# Altium schematic symbol library Dashboard.SchLib: 15 symbols
Pins are listed as number, name and electrical type; pins without a type are passive.

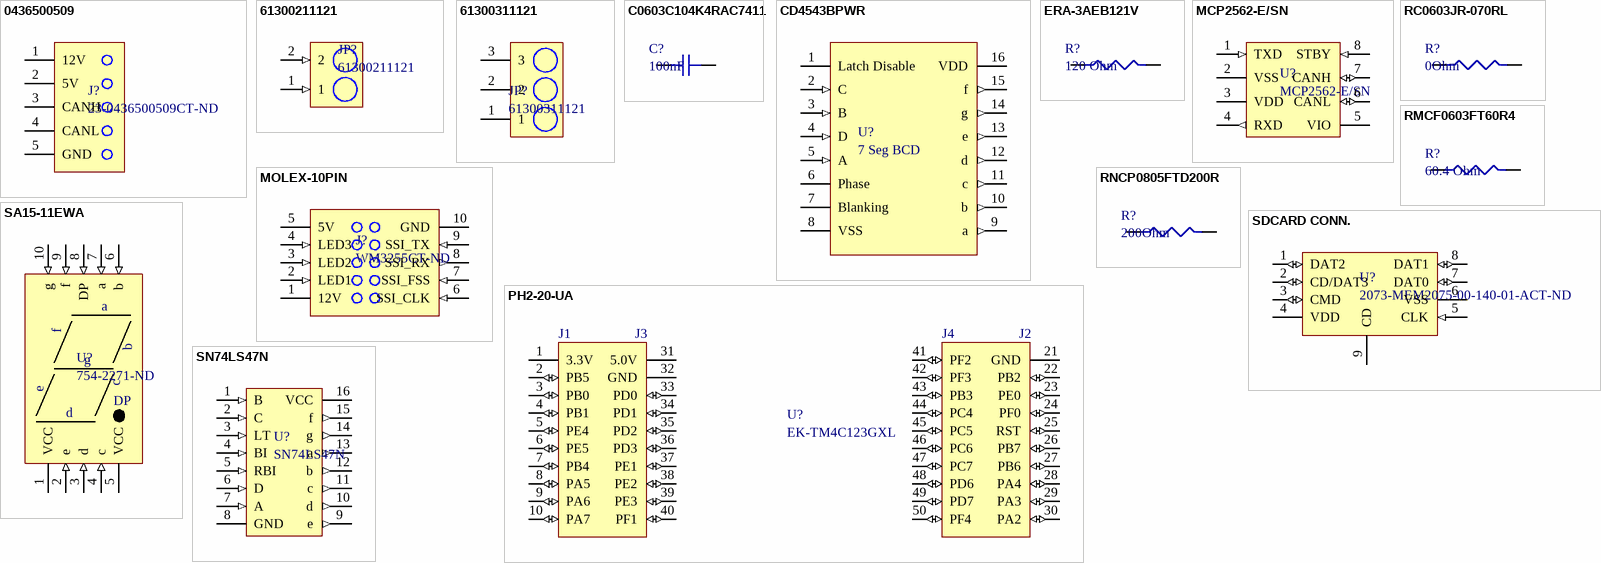
[diagram p0: symbols 0436500509 to SN74LS47N]

## 0436500509
designator J?, comment 23-0436500509CT-ND
GLOVE, POLYAMIDE, L/FREE, PU, SIZE 6 - More Details; Manufacturer: Molex; Max Voltage Rating (AC): 250V; Number of Contacts: 5; Current Rating: 5A; Voltage Rating: 600V; Gender: Male; Connector Type: Male Pin; Pitch: 3mm; Glow Wire Compliant: Compliant; Supplier 1: Digi-Key; Manufacturer Part Number: 0436500509; Stock 1: 8420; Pricing 1: 1=2.58000, 10=2.34500, 100=2.00970 (USD); RoHS: Yes; Mount: Surface Mount; Contact Plating: Tin; Contact Material: Brass; Color: Black; Housing Color: Black; Housing Material: Polymer; Min Operating Temperature: -40°C; Max Operating Temperature: 105°C; Termination: Solder; Orientation: Right Angle; Number of Rows: 1; Packaging: Tape and Reel; Package Quantity: 10; Fastening Type: Ramp; Contact Gender: Male; Number of Positions: 5; Voltage Rating (DC): 250V; Number of Circuits: 5; Halogen Free: Low Halogen; ComponentLink1URL: https://datasheet.ciiva.com/712/436501209-sd-712211.pdf?src-supplier=Digi-Key; ComponentLink1Description: https://datasheet.ciiva.com/712/436501209-sd-712211.pdf?src-supplier=Digi-Key; ComponentLink2URL: https://datasheet.ciiva.com/16089/0436500509-pcb-headers-16089055.pdf?src-supplier=Onlinecomponents.com; ComponentLink2Description: https://datasheet.ciiva.com/16089/0436500509-pcb-headers-16089055.pdf?src-supplier=Onlinecomponents.com; Supplier Part Number 1: 23-0436500509CT-ND
footprint MOLEX-5PIN (Connector Header Surface Mount, Right Angle 5 position 0.118" (3.00mm))
pins: 1 12V (power), 2 5V (power), 3 CANH, 4 CANL, 5 GND (power)

## 61300211121
designator JP?
Headers & Wire Housings WR-PHD 2.54mm 2Pin THT Header; Manufacturer: Wurth Electronics; Current Rating: 3A; Voltage Rating: 250V; Number of Positions: 2; Gender: Male; Connector Type: Male Pin; Pitch: 0.1inch; Supplier 1: Digi-Key; Manufacturer Part Number: 61300211121; Stock 1: 191551; Pricing 1: 1=0.13000, 10=0.10600, 25=0.08800, 50=0.07400, 100=0.06700, 1000=0.06100 (USD); RoHS: Yes; Mount: Through Hole; Contact Plating: Gold; Housing Material: PBT; Contact Material: Copper Alloy,Copper; Color: Black; Min Operating Temperature: -40°C; Max Operating Temperature: 125°C; Number of Rows: 1; Contact Gender: Male; Packaging: Bulk; Termination: Through Hole; Number of Contacts: 2; Contact Mating Length: 0.236inch; REACH SVHC: Unknown; Lead Free: Lead Free; ComponentLink1URL: https://datasheet.ciiva.com/13619/6130xx11121-48870-13619345.pdf?src-supplier=Mouser; ComponentLink1Description: https://datasheet.ciiva.com/13619/6130xx11121-48870-13619345.pdf?src-supplier=Mouser; Supplier Part Number 1: 732-5315-ND
footprint 61300211121 (Connector Header Through Hole 2 position 0.100" (2.54mm))
pins: 1 (in) "Standby Mode Input", 2 (in) "Standby Mode Input"

## 61300311121
designator JP?
WURTH ELEKTRONIK - 61300311121 - HEADER, 2.54MM, PIN, THT, VERTICAL, 3WAY; Manufacturer: Wurth Electronics; Number of Positions: 3; Gender: Male; Connector Type: Male Pin; Pitch: 0.1inch; Supplier 1: Digi-Key; Manufacturer Part Number: 61300311121; Stock 1: 56311; Pricing 1: 1=0.13000, 10=0.10600, 25=0.08800, 50=0.07400, 100=0.06700, 1000=0.06100 (USD); RoHS: Yes; Mount: Through Hole; Contact Plating: Gold; Contact Material: Copper; Color: Black; Number of Rows: 1; Packaging: Bulk; Termination: Solder; Number of Contacts: 3; Contact Mating Length: 0.236inch; REACH SVHC: Unknown; Lead Free: Lead Free; ComponentLink1URL: http://www.farnell.com/cad/1737268.pdf?src-supplier=Element14; ComponentLink1Description: http://www.farnell.com/cad/1737268.pdf?src-supplier=Element14; ComponentLink2URL: https://katalog.we-online.de/em/datasheet/6130xx11121.pdf?src-supplier=Digi-Key; ComponentLink2Description: https://katalog.we-online.de/em/datasheet/6130xx11121.pdf?src-supplier=Digi-Key; Supplier Part Number 1: 732-5316-ND
footprint 61300311121 (Connector Header Through Hole 3 position 0.100" (2.54mm))
pins: 1 "Standby Mode Input", 2 "Standby Mode Input", 3 "Standby Mode Input"

## C0603C104K4RAC7411
designator C?, comment 100nF
Cap Ceramic 0.1uF 16V X7R 10% SMD 0603 125C Paper T/R; Manufacturer: KEMET; Manufacturer Part Number: C0603C104K4RAC7411; Dissipation Factor: 3.5%; Supplier 1: Digi-Key; Stock 1: 26049; Pricing 1: 1=0.14000, 10=0.09800, 100=0.04620, 500=0.03240, 1000=0.02683, 2500=0.02497, 5000=0.02285 (USD); RoHS: Yes; Mount: Surface Mount; Case/Package: 0603; Case Code (Imperial): 0603; Case Code (Metric): 1608; Dielectric Material: Ceramic; Min Operating Temperature: -55°C; Max Operating Temperature: 125°C; Tolerance: 10%; Packaging: Tape and Reel; Capacitance: 100nF; Package Quantity: 10000; Voltage Rating: 16V; Voltage Rating (DC): 16V; Dielectric: X7R; Termination: SMD/SMT; Length: 1.6mm; Height: 0.8mm; Width: 0.8mm; Lead Pitch: 0.7mm; Depth: 0.8mm; Radiation Hardening: No; ComponentLink1URL: https://datasheet.ciiva.com/5411/kem-c1002-x7r-smd-357932-5411657.pdf?src-supplier=Mouser; ComponentLink1Description: https://datasheet.ciiva.com/5411/kem-c1002-x7r-smd-357932-5411657.pdf?src-supplier=Mouser; Supplier Part Number 1: 399-17393-1-ND
footprint CAPC1608X10N (Chip Capacitor, 2-Leads, Body 1.60x0.80mm, IPC Medium Density)
pins: 1, 2

## CD4543BPWR
designator U?, comment 7 Seg BCD
IC BCD7SEG LCH/DECD/DRVR 16TSSOP; Manufacturer: Texas Instruments; Manufacturer Part Number: CD4543BPWR; Number of Inputs: 4; Number of Outputs: 7; Propagation Delay: 400ns; Max Supply Voltage: 18V; Min Supply Voltage: 3V; Number of Elements: 1; Logic Function: Demultiplexer,Decoder; Polarity: Non-Inverting; Turn-On Delay Time: 1200ns; High Level Output Current: -3.33mA; Low Level Output Current: 4.2mA; Quiescent Current: 100uA; Display Type: LCD; Operating Supply Current: 40nA; Bandwidth: 8MHz; Supplier 1: Digi-Key; Stock 1: 1809; Pricing 1: 1=0.42000, 10=0.35900, 100=0.26820, 500=0.21074, 1000=0.16284 (USD); RoHS: Yes; Case/Package: TSSOP; Number of Pins: 16; Weight: 0.002183oz; Contact Plating: Gold; Min Operating Temperature: -55°C; Max Operating Temperature: 125°C; Packaging: Tape and Reel; Package Quantity: 1; Min Input Voltage: 3V; Number of Input Lines: 4; Number of Output Lines: 7; Number of Bits: 7; Number of Channels: 4; Lead Free: Lead Free; ComponentLink1URL: https://datasheet.ciiva.com/14294/cd4543b-14294665.pdf?src-supplier=Avnet; ComponentLink1Description: https://datasheet.ciiva.com/14294/cd4543b-14294665.pdf?src-supplier=Avnet; ComponentLink2URL: https://datasheet.ciiva.com/1940/cd4543b-1940490.pdf?src-supplier=Digi-Key; ComponentLink2Description: https://datasheet.ciiva.com/1940/cd4543b-1940490.pdf?src-supplier=Digi-Key; ComponentLink3URL: https://datasheet.ciiva.com/1940/cd4543b-1940491.pdf?src-supplier=Digi-Key; ComponentLink3Description: https://datasheet.ciiva.com/1940/cd4543b-1940491.pdf?src-supplier=Digi-Key; ComponentLink4URL: https://datasheet.ciiva.com/1940/cd4543b-1940492.pdf?src-supplier=Digi-Key; ComponentLink4Description: https://datasheet.ciiva.com/1940/cd4543b-1940492.pdf?src-supplier=Digi-Key; Supplier Part Number 1: 296-17106-1-ND
footprint TSOP65P640X120-16N (TSOP, 16-Leads, Body 5.00x4.40mm, Pitch 0.65mm, IPC Medium Density)
pins: 1 Latch Disable (power), 2 C (in), 3 B (in), 4 D (in), 5 A (in), 6 Phase (power), 7 Blanking (power), 8 VSS (power), 9 a (out), 10 b (out), 11 c (out), 12 d (out), 13 e (out), 14 g (out), 15 f (out), 16 VDD (power)

## ERA-3AEB121V
designator R?, comment 120 Ohm
Metal film resistor 120 Ω SMD 0603 0.1 W; Manufacturer: Panasonic; Manufacturer Part Number: ERA-3AEB121V; Resistance: 120R; Power Rating: 100mW; Tolerance: 0.1%; Voltage Rating: 75V; Temperature Coefficient: 25ppm/°C; Supplier 1: Digi-Key; Stock 1: 121177; Pricing 1: 1=0.35000, 10=0.30000, 100=0.11730, 1000=0.04908, 2500=0.04499 (USD); RoHS: Yes; Mount: Surface Mount; Case/Package: 0603; Number of Pins: 2; Case Code (Metric): 1608; Case Code (Imperial): 0603; Contact Plating: Tin; Min Operating Temperature: -55°C; Max Operating Temperature: 155°C; Packaging: Tape and Reel; Package Quantity: 1; Composition: Thin Film; Number of Terminations: 2; Termination: SMD/SMT; Military Standard: Not; Max Power Dissipation: 100mW; Voltage Rating (DC): 75V; Features: Automotive AEC-Q200; Length: 1.6mm; Height: 0.45mm; Width: 0.8mm; Depth: 0.8mm; Radiation Hardening: No; REACH SVHC: No SVHC; Lead Free: Lead Free; ComponentLink1URL: https://datasheet.ciiva.com/11808/0900766b80fe20f7-11808026.pdf?src-supplier=RSComponents; ComponentLink1Description: https://datasheet.ciiva.com/11808/0900766b80fe20f7-11808026.pdf?src-supplier=RSComponents; ComponentLink2URL: https://datasheet.ciiva.com/22737/1776116-22737254.pdf?src-supplier=Element14; ComponentLink2Description: https://datasheet.ciiva.com/22737/1776116-22737254.pdf?src-supplier=Element14; ComponentLink3URL: https://datasheet.ciiva.com/30214/54aoa0000ce26-30214359.pdf?src-supplier=Onlinecomponents.com; ComponentLink3Description: https://datasheet.ciiva.com/30214/54aoa0000ce26-30214359.pdf?src-supplier=Onlinecomponents.com; ComponentLink4URL: https://datasheet.ciiva.com/48425/era-eng-tds-48425415.pdf?src-supplier=Distrelec; ComponentLink4Description: https://datasheet.ciiva.com/48425/era-eng-tds-48425415.pdf?src-supplier=Distrelec; ComponentLink5URL: https://datasheet.ciiva.com/5999/485442-5999048.pdf?src-supplier=Farnell; ComponentLink5Description: https://datasheet.ciiva.com/5999/485442-5999048.pdf?src-supplier=Farnell; ComponentLink6URL: https://datasheet.ciiva.com/43455/485442-43455209.pdf?src-supplier=Farnell; ComponentLink6Description: https://datasheet.ciiva.com/43455/485442-43455209.pdf?src-supplier=Farnell; ComponentLink7URL: https://datasheet.ciiva.com/43457/485442-43457753.pdf?src-supplier=Farnell; ComponentLink7Description: https://datasheet.ciiva.com/43457/485442-43457753.pdf?src-supplier=Farnell; ComponentLink8URL: https://datasheet.ciiva.com/48534/era-eng-tds-48534505.pdf?src-supplier=Distrelec; ComponentLink8Description: https://datasheet.ciiva.com/48534/era-eng-tds-48534505.pdf?src-supplier=Distrelec; ComponentLink9URL: https://datasheet.ciiva.com/5999/485442-5999050.pdf?src-supplier=Farnell; ComponentLink9Description: https://datasheet.ciiva.com/5999/485442-5999050.pdf?src-supplier=Farnell; ComponentLink10URL: https://datasheet.ciiva.com/9117/aoa0000ce26-9117338.pdf?src-supplier=Avnet; ComponentLink10Description: https://datasheet.ciiva.com/9117/aoa0000ce26-9117338.pdf?src-supplier=Avnet; ComponentLink11URL: https://datasheet.ciiva.com/9186/aoa0000ce26-9186155.pdf?src-supplier=Avnet; ComponentLink11Description: https://datasheet.ciiva.com/9186/aoa0000ce26-9186155.pdf?src-supplier=Avnet; Supplier Part Number 1: P120DBCT-ND
footprint RESC1608X06N (Chip Resistor, 2-Leads, Body 1.60x0.80mm, IPC Medium Density)
pins: 1, 2

## MCP2562-E/SN
designator U?
Interface IC CAN SO-8; Manufacturer: Microchip; Number of Transmit Buffers: 1; Min Supply Voltage: 4.5V; Max Supply Voltage: 5.5V; Data Rate: 1Mbps; Nominal Supply Current: 70mA; Propagation Delay: 125ns; Interface: CAN,LIN; Logic Function: Transceiver; Supplier 1: Digi-Key; Manufacturer Part Number: MCP2562-E/SN; Stock 1: 3084; Pricing 1: 1=0.90000, 25=0.75000, 100=0.68000 (USD); RoHS: Yes; Mount: Surface Mount; Case/Package: SOIC; Number of Pins: 8; Min Operating Temperature: -40°C; Max Operating Temperature: 125°C; Number of Receive Buffers: 1; Packaging: Rail/Tube; Number of Receivers: 1; Package Quantity: 100; Turn-On Delay Time: 125ns; Number of Transceivers: 1; Max Supply Current: 70mA; Number of Drivers: 1; Length: 4.9mm; Height: 1.5mm; Width: 3.9mm; Radiation Hardening: No; REACH SVHC: No SVHC; Lead Free: Lead Free; ComponentLink1URL: https://datasheet.ciiva.com/26922/getdatasheetpartid-776214-26922473.pdf?src-supplier=Verical; ComponentLink1Description: https://datasheet.ciiva.com/26922/getdatasheetpartid-776214-26922473.pdf?src-supplier=Verical; ComponentLink2URL: https://datasheet.ciiva.com/24192/filehandler-aspxddocname-en561044-24192158.pdf?src-supplier=Future+Electronics; ComponentLink2Description: https://datasheet.ciiva.com/24192/filehandler-aspxddocname-en561044-24192158.pdf?src-supplier=Future+Electronics; ComponentLink3URL: https://datasheet.ciiva.com/39123/21125167b-39123503.pdf?src-supplier=Onlinecomponents.com; ComponentLink3Description: https://datasheet.ciiva.com/39123/21125167b-39123503.pdf?src-supplier=Onlinecomponents.com; ComponentLink4URL: https://datasheet.ciiva.com/22747/1755821-22747911.pdf?src-supplier=Element14; ComponentLink4Description: https://datasheet.ciiva.com/22747/1755821-22747911.pdf?src-supplier=Element14; ComponentLink5URL: https://datasheet.ciiva.com/18624/25167b-18624808.pdf?src-supplier=Digi-Key; ComponentLink5Description: https://datasheet.ciiva.com/18624/25167b-18624808.pdf?src-supplier=Digi-Key; ComponentLink6URL: https://datasheet.ciiva.com/29898/25167b-29898006.pdf?src-supplier=Avnet; ComponentLink6Description: https://datasheet.ciiva.com/29898/25167b-29898006.pdf?src-supplier=Avnet; ComponentLink7URL: https://datasheet.ciiva.com/48512/mcp2562-eng-tds-48512071.pdf?src-supplier=Distrelec; ComponentLink7Description: https://datasheet.ciiva.com/48512/mcp2562-eng-tds-48512071.pdf?src-supplier=Distrelec; Supplier Part Number 1: MCP2562-E/SN-ND
footprint SOIC127P600X175-8N (SOIC, 8-Leads, Body 4.90x3.90mm, Pitch 1.27mm, IPC Medium Density)
pins: 1 TXD (in) "Transmit Data Input", 2 VSS (power) "Ground", 3 VDD (power) "Supply Voltage", 4 RXD (out) "Receive Data Output", 5 VIO "Digital IO Supply Pin", 6 CANL (io) "CAN Low-Level Voltage I/O", 7 CANH (io) "CAN High-Level Voltage I/O", 8 STBY (in) "Standby Mode Input"

## MOLEX-10PIN
designator J?, comment WM3255CT-ND
HEADER R/A 10POS DUAL TIN SMD; Manufacturer: Molex; Manufacturer Part Number: 0430451006; Contact Resistance: 10mR; Number of Positions: 10; Connector Type: Male Pin; Pitch: 3mm; Row Spacing: 0.118inch; Supplier 1: Digi-Key; Stock 1: 2460; Pricing 1: 1=3.72000, 10=3.57200, 100=2.97680 (USD); RoHS: Yes; Mount: Surface Mount; Contact Plating: Tin; Contact Material: Brass; Color: Black; Housing Material: Polymer; Housing Color: Black; Min Operating Temperature: -40°C; Max Operating Temperature: 105°C; Number of Rows: 2; Packaging: Tape and Reel; Termination: Solder; Number of Contacts: 10; Orientation: Right Angle; Fastening Type: Latch; Length: 19.15mm; Depth: 15.4mm; ComponentLink1URL: https://datasheet.ciiva.com/737/430450407-sd-737953.pdf?src-supplier=Digi-Key; ComponentLink1Description: https://datasheet.ciiva.com/737/430450407-sd-737953.pdf?src-supplier=Digi-Key; Supplier Part Number 1: WM3255CT-ND
footprint MOLEX-10PIN (Connector Header Surface Mount, Right Angle 10 position 0.118" (3.00mm))
pins: 1 12V (power), 2 LED1 (in), 3 LED2 (in), 4 LED3 (in), 5 5V (power), 6 SSI_CLK (in), 7 SSI_FSS (in), 8 SSI_RX (out), 9 SSI_TX (in), 10 GND (power)

## PH2-20-UA
designator U?, comment EK-TM4C123GXL
PH Series 20 Position Through-Hole Dual Row Straight .100 Header; Manufacturer: Adam Equipment; Manufacturer Part Number: PH2-20-UA; Number of Positions: 20; Pitch: 2.54mm; Supplier 1: Digi-Key; Stock 1: 6280; Pricing 1: 1=0.26000, 10=0.24700, 100=0.17300, 500=0.14826, 1000=0.12355, 5000=0.10590, 10000=0.09884 (USD); RoHS: Yes; Mount: Through Hole; Contact Plating: Gold; Termination: Solder; Packaging: Bag; Lead Free: Lead Free; ComponentLink1URL: https://datasheet.ciiva.com/16479/page-312-315-16479356.pdf?src-supplier=Future+Electronics; ComponentLink1Description: https://datasheet.ciiva.com/16479/page-312-315-16479356.pdf?src-supplier=Future+Electronics; Supplier Part Number 1: 2057-PH2-20-UA-ND
footprint TIVA Headers
pins: 1 3.3V (power), 2 PB5 (io), 3 PB0 (io), 4 PB1 (io), 5 PE4 (io), 6 PE5 (io), 7 PB4 (io), 8 PA5 (io), 9 PA6 (io), 10 PA7 (io), 21 GND (power), 22 PB2 (io), 23 PE0 (io), 24 PF0 (io), 25 RST (io), 26 PB7 (io), 27 PB6 (io), 28 PA4 (io), 29 PA3 (io), 30 PA2 (io), 31 5.0V (power), 32 GND (power), 33 PD0 (io), 34 PD1 (io), 35 PD2 (io), 36 PD3 (io), 37 PE1 (io), 38 PE2 (io), 39 PE3 (io), 40 PF1 (io), 41 PF2 (io), 42 PF3 (io), 43 PB3 (io), 44 PC4 (io), 45 PC5 (io), 46 PC6 (io), 47 PC7 (io), 48 PD6 (io), 49 PD7 (io), 50 PF4 (io)
text: J1; J3; J4; J2

## RC0603JR-070RL
designator R?, comment 0Ohm
RES SMD 0 OHM JUMPER 1/10W 0603; Manufacturer: Yageo; Manufacturer Part Number: RC0603JR-070RL; Resistance: 0mR; Tolerance: 1%; Voltage Rating: 50V; Power Rating: 100mW; Temperature Coefficient: 200ppm/°C; Supplier 1: Digi-Key; Stock 1: 36135548; Pricing 1: 1=0.10000, 10=0.01900, 25=0.01360, 50=0.01040, 100=0.00770, 250=0.00588, 500=0.00472, 1000=0.00347 (USD); RoHS: Yes; Case/Package: 0603; Number of Pins: 2; Case Code (Imperial): 0603; Case Code (Metric): 1608; Contact Plating: Tin,Matte; Min Operating Temperature: -55°C; Max Operating Temperature: 155°C; Package Quantity: 5000; Packaging: Tape and Reel; Voltage Rating (DC): 50V; Termination: SMD/SMT; Composition: Thick Film; Military Standard: Not; Length: 1.6mm; Height: 0.45mm; Width: 0.8mm; Depth: 0.8mm; Radiation Hardening: No; REACH SVHC: No SVHC; Lead Free: Lead Free; ComponentLink1URL: https://datasheet.ciiva.com/11808/pyu-r-int-6-11808700.pdf?src-supplier=RSComponents; ComponentLink1Description: https://datasheet.ciiva.com/11808/pyu-r-int-6-11808700.pdf?src-supplier=RSComponents; ComponentLink2URL: https://datasheet.ciiva.com/7746/1738695-7746421.pdf?src-supplier=Element14; ComponentLink2Description: https://datasheet.ciiva.com/7746/1738695-7746421.pdf?src-supplier=Element14; ComponentLink3URL: https://datasheet.ciiva.com/8883/pyu-rc0603-51-rohs-l-4-8883045.pdf?src-supplier=Avnet; ComponentLink3Description: https://datasheet.ciiva.com/8883/pyu-rc0603-51-rohs-l-4-8883045.pdf?src-supplier=Avnet; ComponentLink4URL: https://datasheet.ciiva.com/15189/getdatasheetpartid-329462-15189845.pdf?src-supplier=Verical; ComponentLink4Description: https://datasheet.ciiva.com/15189/getdatasheetpartid-329462-15189845.pdf?src-supplier=Verical; ComponentLink5URL: https://datasheet.ciiva.com/7746/1738695-7746422.pdf?src-supplier=Element14; ComponentLink5Description: https://datasheet.ciiva.com/7746/1738695-7746422.pdf?src-supplier=Element14; ComponentLink6URL: https://datasheet.ciiva.com/12555/rc0603-272842-12555254.pdf?src-supplier=Mouser; ComponentLink6Description: https://datasheet.ciiva.com/12555/rc0603-272842-12555254.pdf?src-supplier=Mouser; ComponentLink7URL: https://datasheet.ciiva.com/22747/443971-22747530.pdf?src-supplier=Element14; ComponentLink7Description: https://datasheet.ciiva.com/22747/443971-22747530.pdf?src-supplier=Element14; Supplier Part Number 1: 311-0.0GRCT-ND
footprint RES-0603 (Chip Resistor, 2-Leads, Body 1.60x0.80mm, IPC Medium Density)
pins: 1, 2

## RMCF0603FT60R4
designator R?, comment 60.4 Ohm
RES 60.4 OHM 1% 1/10W 0603; Manufacturer: Stackpole Electronics; Manufacturer Part Number: RMCF0603FT60R4; Resistance: 60.4R; Max Power Dissipation: 100mW; Temperature Coefficient: 100ppm/°C; Supplier 1: Digi-Key; Stock 1: 27338; Pricing 1: 1=0.10000, 10=0.01600, 100=0.00650, 1000=0.00292, 2500=0.00253 (USD); RoHS: Yes; Mount: Surface Mount; Case/Package: 0603; Case Code (Metric): 1608; Case Code (Imperial): 0603; Contact Plating: Tin,Matte; Min Operating Temperature: -55°C; Max Operating Temperature: 155°C; Packaging: Tape and Reel; Tolerance: 1%; Composition: Thick Film; Number of Terminations: 2; Features: Automotive AEC-Q200; Length: 0.061inch; Height: 0.022inch; Width: 0.031inch; Radiation Hardening: No; Lead Free: Lead Free; ComponentLink1URL: http://components.arrow.com/part/dataview/50499519S121523N1174?src-supplier=Arrow; ComponentLink1Description: http://components.arrow.com/part/dataview/50499519S121523N1174?src-supplier=Arrow; ComponentLink2URL: https://www.seielect.com/catalog/SEI-RMCF_RMCP.pdf?src-supplier=Avnet; ComponentLink2Description: https://www.seielect.com/catalog/SEI-RMCF_RMCP.pdf?src-supplier=Avnet; ComponentLink3URL: https://www.seielect.com/catalog/SEI-Packaging.pdf?src-supplier=Digi-Key; ComponentLink3Description: https://www.seielect.com/catalog/SEI-Packaging.pdf?src-supplier=Digi-Key; Supplier Part Number 1: RMCF0603FT60R4CT-ND
footprint 60.4 OHM RES 0603 (60.4 Ohms ±1% 0.1W, 1/10W Chip Resistor 0603 (1608 Metric) Automotive AEC-Q200 Thick Film)
pins: 1, 2

## RNCP0805FTD200R
designator R?, comment 200Ohm
RES SMD 200 OHM 1% 1/4W 0805; Manufacturer: Stackpole Electronics; Manufacturer Part Number: RNCP0805FTD200R; Resistance: 200R; Max Power Dissipation: 250mW; Temperature Coefficient: 100ppm/°C; Supplier 1: Digi-Key; Stock 1: 80873; Pricing 1: 1=0.10000, 10=0.07200, 100=0.02770, 1000=0.01220, 2500=0.01053 (USD); RoHS: Yes; Mount: Surface Mount; Case/Package: 0805; Case Code (Metric): 2012; Case Code (Imperial): 0805; Min Operating Temperature: -55°C; Max Operating Temperature: 155°C; Packaging: Tape and Reel; Composition: Thin Film; Number of Terminations: 2; Tolerance: 1%; Features: Moisture Resistant,Anti-Sulfur; Length: 0.079inch; Height: 0.024inch; Width: 0.049inch; ComponentLink1URL: http://www.seielect.com/Catalog/SEI-rncp.pdf?src-supplier=Digi-Key; ComponentLink1Description: http://www.seielect.com/Catalog/SEI-rncp.pdf?src-supplier=Digi-Key; ComponentLink2URL: https://www.seielect.com/catalog/SEI-Packaging.pdf?src-supplier=Digi-Key; ComponentLink2Description: https://www.seielect.com/catalog/SEI-Packaging.pdf?src-supplier=Digi-Key; ComponentLink3URL: https://www.seielect.com/Catalog/SEI-rncp.pdf?src-supplier=Avnet; ComponentLink3Description: https://www.seielect.com/Catalog/SEI-rncp.pdf?src-supplier=Avnet; Supplier Part Number 1: RNCP0805FTD200RCT-ND
footprint RES-0805 (Chip Resistor, 2-Leads, Body 2.00x1.25mm, IPC Medium Density)
pins: 1, 2

## SA15-11EWA
designator U?, comment 754-2271-ND
DISPLAY, SEVEN SEGMENT, 47MM, RED, COMMON ANODE; Manufacturer: Kingbright; Manufacturer Part Number: SA15-11EWA; Number of Characters: 1; Max Power Dissipation: 150mW; Forward Current: 30mA; Forward Voltage: 4V; Operating Supply Voltage: 2V; Wavelength: 625nm; Luminous Intensity: 16mcd; Test Current: 20mA; Supplier 1: Digi-Key; Stock 1: 760; Pricing 1: 1=3.36000, 10=2.80000, 100=1.96000, 500=1.62400 (USD); RoHS: Yes; Case/Package: DIP; Color: Red; Min Operating Temperature: -40°C; Max Operating Temperature: 85°C; Package Quantity: 15; Packaging: Rail/Tube; Element Configuration: Common Anode; Illumination Color: Red; Height: 1.85inch; Width: 1.306inch; REACH SVHC: No SVHC; ComponentLink1URL: https://datasheet.ciiva.com/2105/sa15-11ewa-2105137.pdf?src-supplier=Digi-Key; ComponentLink1Description: https://datasheet.ciiva.com/2105/sa15-11ewa-2105137.pdf?src-supplier=Digi-Key; ComponentLink2URL: https://datasheet.ciiva.com/4421/sa15-11ewa-49819-4421892.pdf?src-supplier=Mouser; ComponentLink2Description: https://datasheet.ciiva.com/4421/sa15-11ewa-49819-4421892.pdf?src-supplier=Mouser; ComponentLink3URL: https://datasheet.ciiva.com/1230/57137-1230472.pdf?src-supplier=Element14; ComponentLink3Description: https://datasheet.ciiva.com/1230/57137-1230472.pdf?src-supplier=Element14; ComponentLink4URL: https://datasheet.ciiva.com/1230/28421-1230493.pdf?src-supplier=Element14; ComponentLink4Description: https://datasheet.ciiva.com/1230/28421-1230493.pdf?src-supplier=Element14; Supplier Part Number 1: 754-2271-ND
footprint SA15-11EWA (1.5" 7 Segment Display)
pins: 1 VCC (power), 2 e (in), 3 d (in), 4 c (in), 5 VCC (power), 6 b (in), 7 a (in), 8 DP (in), 9 f (in), 10 g (in)

## SDCARD CONN.
designator U?, comment 2073-MEM2075-00-140-01-ACT-ND
850NM POINT SOURCE LED ASSY; Manufacturer: Global Connector Technology; Supplier 1: Newark; Manufacturer Part Number: MEM2075-00-140-01-A; Stock 1: 1028; Pricing 1: 1=1.68000, 10=1.53000, 25=1.53000, 50=1.53000, 100=1.42000, 250=1.42000, 500=1.32000, 1000=1.23000, 1=1.26000, 10=1.15000, 25=1.15000, 50=1.15000, 100=1.07000, 250=1.07000, 500=0.98600, 1000=0.92000 (CAD); RoHS: No; Supplier Part Number 1: 56AC1963
footprint SDCARD-NORMAL (9 (8 + 1) Position Card Connector microSD™ Surface Mount, Right Angle Gold)
pins: 1 DAT2 (io) "Data Bit 2", 2 CD/DAT3 (io) "Card Detect/Data Bit 3", 3 CMD (io) "Commad Line", 4 VDD (power) "Supply Voltage - 2.7V/3/6V", 5 CLK (in) "Clock", 6 VSS (power) "Ground", 7 DAT0 (io) "Data Bit 0", 8 DAT1 (io) "Data Bit 1", 9 CD "Card Detect"

## SN74LS47N
designator U?
TEXAS INSTRUMENTS - SN74LS47N - BCD TO 7 SEGMENT DECODER/DRIVER, DIP-16; Number of Outputs: 7; Number of Circuits: 1; Bandwidth: 35MHz; Max Supply Voltage: 5.25V; Min Supply Voltage: 4.75V; Operating Supply Voltage: 5V; Propagation Delay: 100ns; Number of Inputs: 4; Operating Supply Current: 7mA; Logic Function: Demultiplexer,Decoder; Low Level Output Current: 3.2mA; Polarity: Inverting; High Level Output Current: -50uA; Supplier 1: Digi-Key; Manufacturer: Texas Instruments; Manufacturer Part Number: SN74LS47N; Stock 1: 21220; Pricing 1: 1=1.77000, 10=1.59000, 25=1.50000, 100=1.27800, 500=1.05000, 1000=0.87000, 2500=0.81000, 5000=0.78000 (USD); RoHS: Yes; Case/Package: N; Number of Pins: 16; Weight: 0.03357oz; Min Operating Temperature: 0°C; Max Operating Temperature: 70°C; Packaging: Rail/Tube; Number of Bits: 7; Package Quantity: 25; Number of Elements: 1; Max Input Voltage: 5.25V; Min Input Voltage: 4.75V; Number of Input Lines: 4; Number of Output Lines: 7; Turn-On Delay Time: 100ns; Number of Channels: 1; Max Frequency: 35MHz; Max Supply Current: 7mA; Length: 19.3mm; Height: 4.57mm; Width: 6.35mm; Radiation Hardening: No; REACH SVHC: No SVHC; Lead Free: Lead Free; ComponentLink1URL: https://datasheet.ciiva.com/15092/getdatasheetpartid-239224-15092334.pdf?src-supplier=Verical; ComponentLink1Description: https://datasheet.ciiva.com/15092/getdatasheetpartid-239224-15092334.pdf?src-supplier=Verical; ComponentLink2URL: https://datasheet.ciiva.com/26876/sn74ls47n-26876075.pdf?src-supplier=IIIC; ComponentLink2Description: https://datasheet.ciiva.com/26876/sn74ls47n-26876075.pdf?src-supplier=IIIC; ComponentLink3URL: https://datasheet.ciiva.com/14294/sn74ls47-14294903.pdf?src-supplier=Avnet; ComponentLink3Description: https://datasheet.ciiva.com/14294/sn74ls47-14294903.pdf?src-supplier=Avnet; ComponentLink4URL: https://datasheet.ciiva.com/14134/bcd-to-7segment-eng-tds-14134266.pdf?src-supplier=Distrelec; ComponentLink4Description: https://datasheet.ciiva.com/14134/bcd-to-7segment-eng-tds-14134266.pdf?src-supplier=Distrelec; ComponentLink5URL: https://datasheet.ciiva.com/1940/sn7447a-1940513.pdf?src-supplier=Digi-Key; ComponentLink5Description: https://datasheet.ciiva.com/1940/sn7447a-1940513.pdf?src-supplier=Digi-Key; ComponentLink6URL: https://datasheet.ciiva.com/41462/001014504-da-01-en-ic-bcd-7-seg-decod-sn74ls47n-pdip-16-tid-41462357.pdf?src-supplier=Conrad; ComponentLink6Description: https://datasheet.ciiva.com/41462/001014504-da-01-en-ic-bcd-7-seg-decod-sn74ls47n-pdip-16-tid-41462357.pdf?src-supplier=Conrad; Supplier Part Number 1: 296-3712-5-ND
pins: 1 B (in), 2 C (in), 3 LT (in), 4 BI (in) "Blanking Input", 5 RBI (in), 6 D (in), 7 A (in), 8 GND (power), 9 e (out), 10 d (out), 11 c (out), 12 b (out), 13 a (out), 14 g (out), 15 f (out), 16 VCC (power)